# EAGLE library part LM2903D (library texas-instruments)
DUAL DIFFERENTIAL COMPARATOR, 8-soic, 36V, open collector output
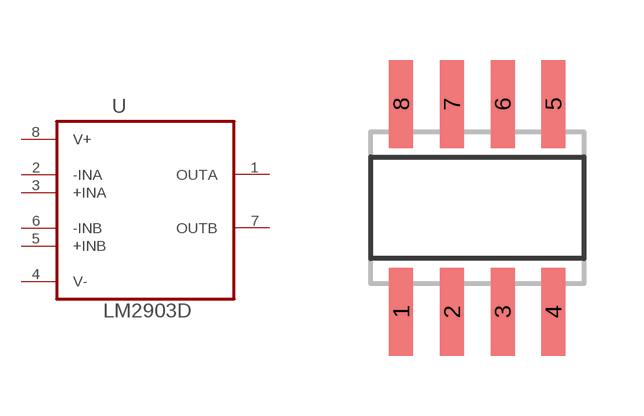
[diagram p27: symbol with the pads of SO08; footprint SO08]

Designator prefix -

## LM2903DLM2903DRG3 (DIGIKEY: 296-27463-1-ND)  [SO08]
1  OUTA  out
2  -INA  in
3  +INA  in
4  V-  pas
5  +INB  in
6  -INB  in
7  OUTB  out
8  V+  pas

## Footprint SO08 (pad centres in mm)
SMALL OUTLINE INTEGRATED CIRCUIT body 3.9 mm/JEDEC MS-012AA
smd 0.6 x 2.2: 1 -1.905,-2.6; 2 -0.635,-2.6; 3 0.635,-2.6; 4 1.905,-2.6; 5 1.905,2.6; 6 0.635,2.6; 7 -0.635,2.6; 8 -1.905,2.6